# EAGLE library part LMZ12002TZ-ADJ (library Janus-IC)
TI 2A Simple Switcher Power Module 20V Max Input, 0.8v - 6v Output Up to 92% Efficient
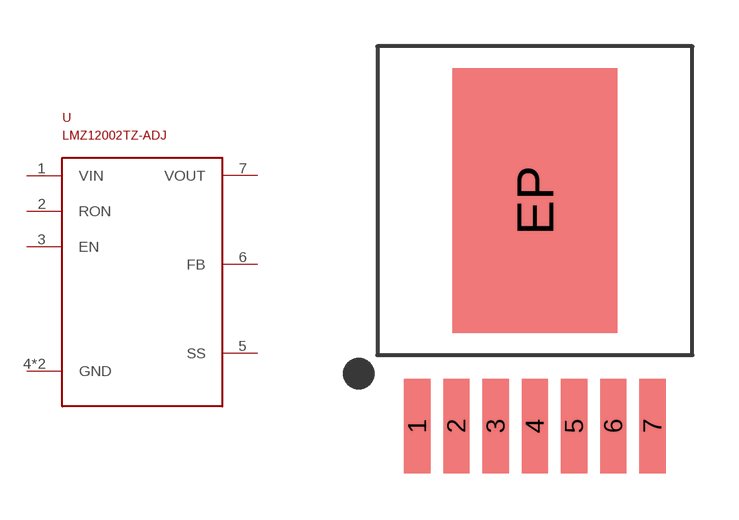
[diagram p1: symbol with the pads of TO-PMOD-7; footprint TO-PMOD-7]

Designator prefix U

## LMZ12002TZ-ADJ  [TO-PMOD-7]
1  VIN
2  RON
3  EN
4  GND
5  SS
6  FB
7  VOUT
EP  GND

## Footprint TO-PMOD-7 (pad centres in mm)
smd 0.85 x 3.06: 1 -3.81,-7.3; 2 -2.54,-7.3; 3 -1.27,-7.3; 4 0,-7.3; 5 1.27,-7.3; 6 2.54,-7.3; 7 3.81,-7.3
smd 5.35 x 8.57: EP 0,0